# Altium integrated library micromatch.IntLib: 12 symbols
Pins are listed as number, name and electrical type; pins without a type are passive.

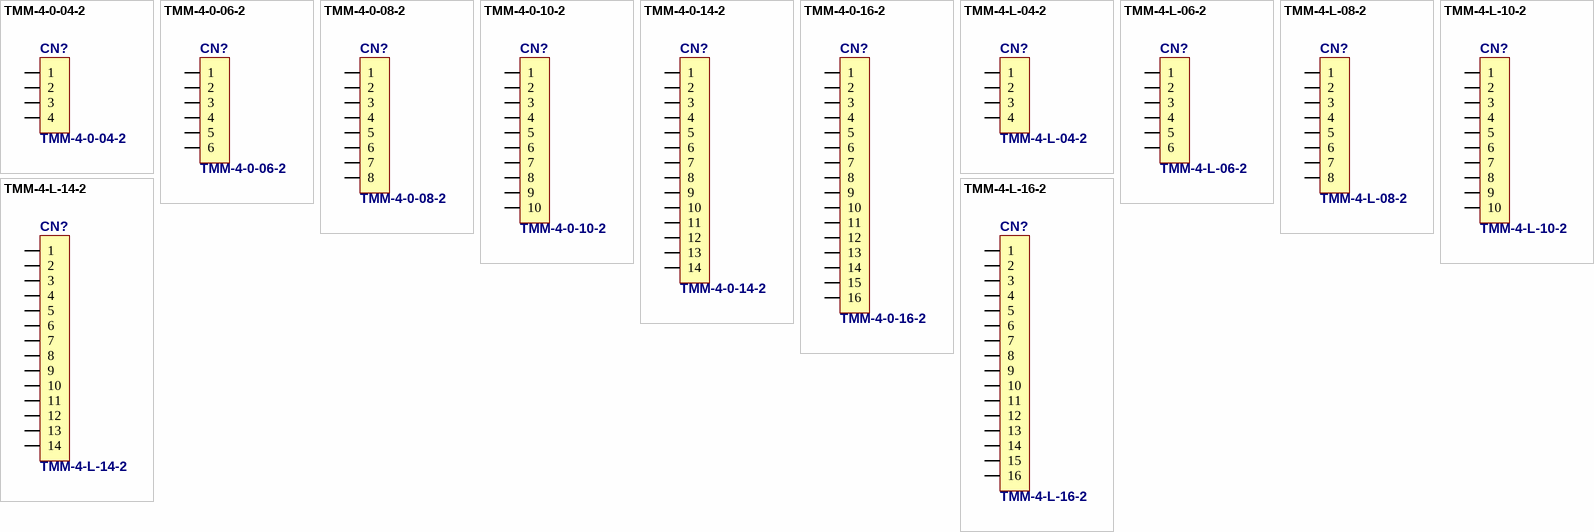
[diagram p0: symbols TMM-4-0-04-2 to TMM-4-L-16-2]

## TMM-4-0-04-2
designator CN?
4-pin MicroMarch Female Socket Without Locking Mechanism, Vertical, THT
pins: 1, 2, 3, 4

## TMM-4-0-06-2
designator CN?
6-pin MicroMarch Female Socket Without Locking Mechanism, Vertical, THT
pins: 1, 2, 3, 4, 5, 6

## TMM-4-0-08-2
designator CN?
8-pin MicroMarch Female Socket Without Locking Mechanism, Vertical, THT
footprint MM_8 (Tyco Micro-Match, 8 Pin)
pins: 1, 2, 3, 4, 5, 6, 7, 8

## TMM-4-0-10-2
designator CN?
10-pin MicroMarch Female Socket Without Locking Mechanism, Vertical, THT
footprint MM_10 (Tyco Micro-Match, 10 Pin)
pins: 1, 2, 3, 4, 5, 6, 7, 8, 9, 10

## TMM-4-0-14-2
designator CN?
14-pin MicroMarch Female Socket Without Locking Mechanism, Vertical, THT
footprint MM_14 (16 Pin MicroMatch Connector Without Lock: TE-CONNECTIVITY 8-215079-4 or AMPHENOL TMM-4-0-14-2)
footprint MM_14_W_CN (16 Pin MicroMatch Connector Without Lock: TE-CONNECTIVITY 8-215079-4 or AMPHENOL TMM-4-0-14-2)
pins: 1, 2, 3, 4, 5, 6, 7, 8, 9, 10, 11, 12, 13, 14

## TMM-4-0-16-2
designator CN?
16-pin MicroMarch Female Socket Without Locking Mechanism, Vertical, THT
footprint MM_16 (Tyco Micro-Match, 16 Pin)
pins: 1, 2, 3, 4, 5, 6, 7, 8, 9, 10, 11, 12, 13, 14, 15, 16

## TMM-4-L-04-2
designator CN?
4-pin MicroMarch Female Socket With Locking Mechanism, Vertical, THT
footprint MM_4_LCK (Wurth Elektronik 690367191072 4pin 2.54)
pins: 1, 2, 3, 4

## TMM-4-L-06-2
designator CN?
6-pin MicroMarch Female Socket With Locking Mechanism, Vertical, THT
footprint MM_6_LCK (Wurth Elektronik 690367191072 6pin 2.54)
pins: 1, 2, 3, 4, 5, 6

## TMM-4-L-08-2
designator CN?
8-pin MicroMarch Female Socket With Locking Mechanism, Vertical, THT
pins: 1, 2, 3, 4, 5, 6, 7, 8

## TMM-4-L-10-2
designator CN?
10-pin MicroMarch Female Socket With Locking Mechanism, Vertical, THT
footprint MM_10_LCK (Wurth Elektronik 690367191072 10pin 2.54)
pins: 1, 2, 3, 4, 5, 6, 7, 8, 9, 10

## TMM-4-L-14-2
designator CN?
14-pin MicroMarch Female Socket With Locking Mechanism, Vertical, THT
footprint MM_14_LCK (16 Pin MicroMatch Connector With Lock: AMPHENOL TMM-4-L-14-2)
footprint MM_14_LCK_W_CN (16 Pin MicroMatch Connector With Lock: AMPHENOL TMM-4-L-14-2)
pins: 1, 2, 3, 4, 5, 6, 7, 8, 9, 10, 11, 12, 13, 14

## TMM-4-L-16-2
designator CN?
16-pin MicroMarch Female Socket With Locking Mechanism, Vertical, THT
pins: 1, 2, 3, 4, 5, 6, 7, 8, 9, 10, 11, 12, 13, 14, 15, 16